# Altium footprint library TerminalBlock_MetzConnect.PcbLib: 61 footprints (part 2 of 4)
Each footprint in its own frame and in the unit in brackets; x right, y up, seen from the top. Pads: shape width x height; smd on the part's side, far side on the other; paste and mask are expansions set on the pad; w line width, h text height; cw(c..) or ccw(c..) is an arc to the next point about the centre after c.
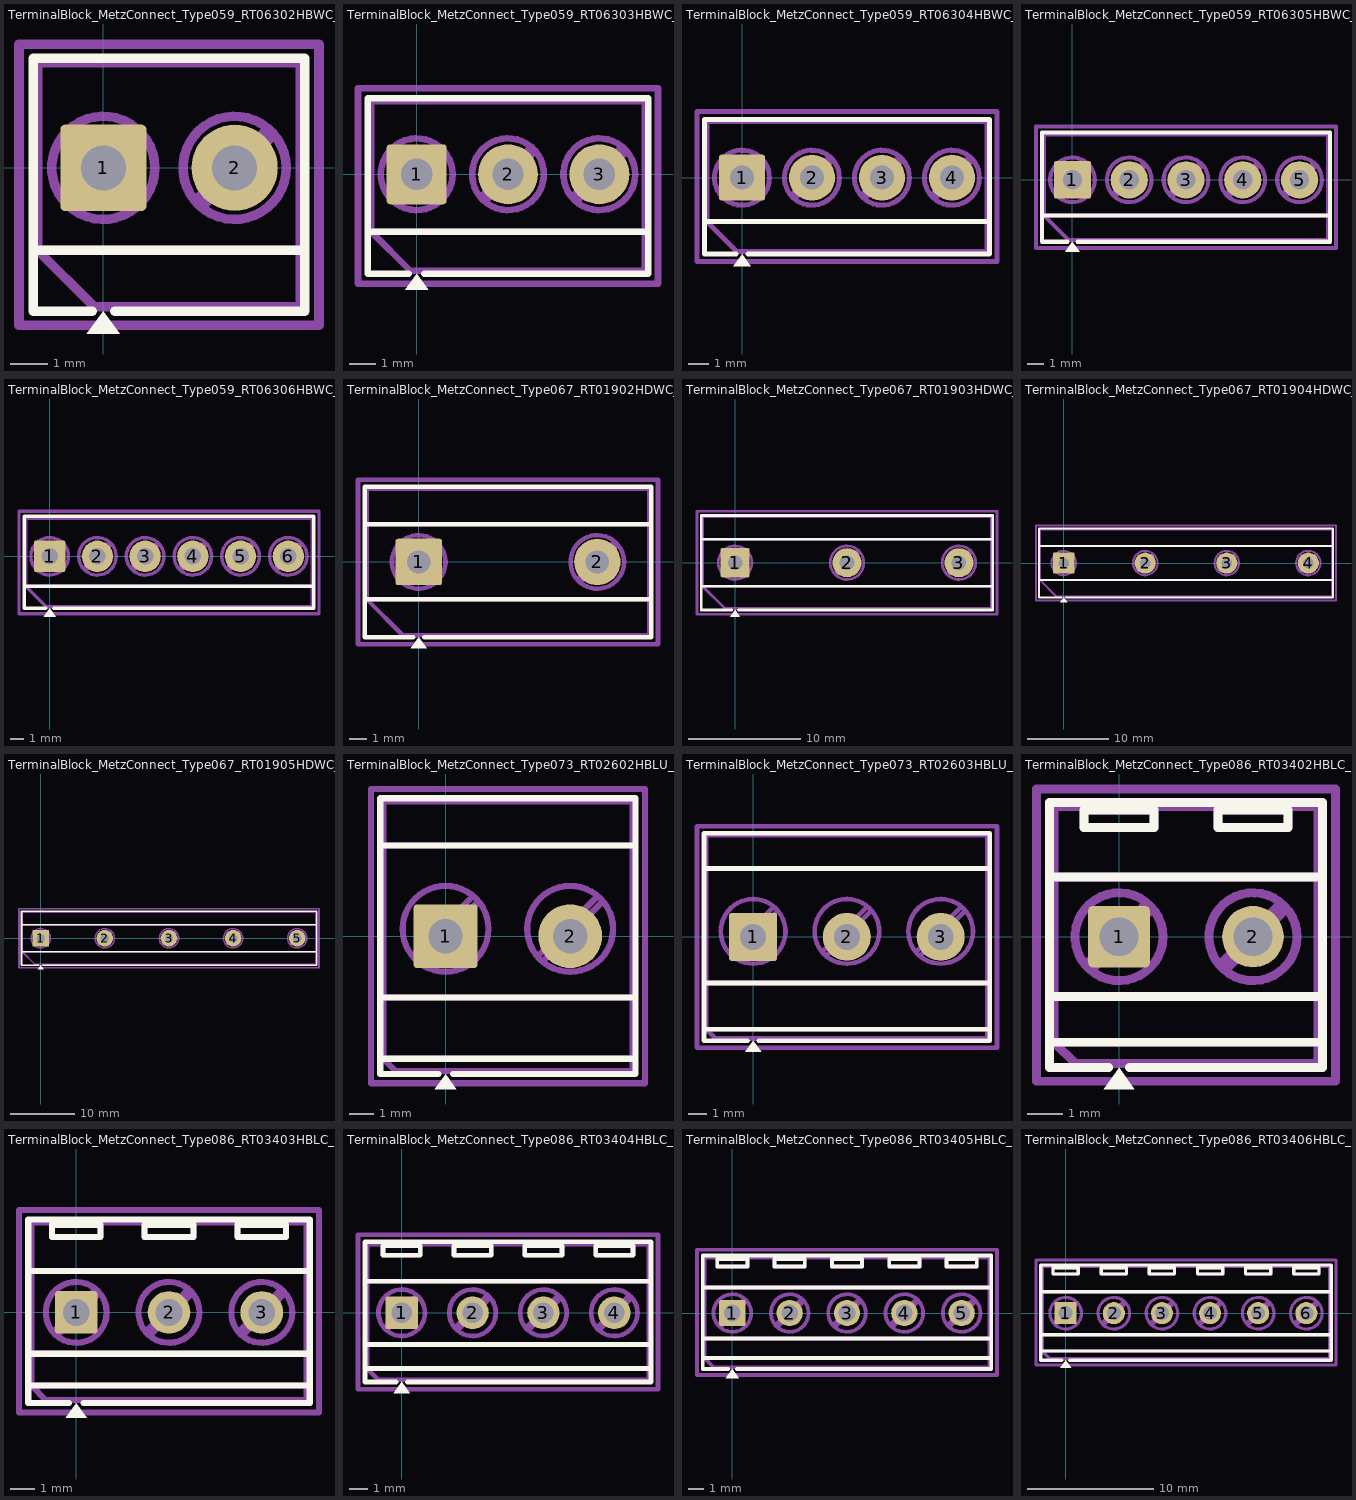
[diagram p1: the footprints below, top view; thin cyan lines are the x and y axes]

## TerminalBlock_MetzConnect_Type059_RT06302HBWC_1x02_P3.50mm_Horizontal [mm]
pads (2):
  rrect11% 2.3x2.3 hole 1.2: 1(0,0)
  round 2.3 hole 1.2: 2(3.5,0)
F.SilkS:
  region: 0.44,-4.43 -0.44,-4.43 0,-3.82
  lines w0.254: -1.87,-2.2 5.37,-2.2 ; -0.3,-3.82 -1.87,-3.82 -1.87,2.92 5.37,2.92 5.37,-3.82 0.3,-3.82
F.Fab:
  circle w0.254: c0,0 r1.375
  circle w0.254: c3.5,0 r1.375
  lines w0.254: -1.043,-0.875 0.875,1.043 ; -0.875,-1.043 1.043,0.875 ; 2.457,-0.875 4.375,1.043 ; 2.625,-1.043 4.543,0.875 ; 5.25,-2.2 -1.75,-2.2 ; -1.75,-2.2 -1.75,2.8 5.25,2.8 5.25,-3.7 -0.25,-3.7 -1.75,-2.2
  text "'.Designator'" at -2.297,-3.79 h1
F.CrtYd:
  lines w0.254: -2.25,-4.2 -2.25,3.3 5.75,3.3 5.75,-4.2 -2.25,-4.2

## TerminalBlock_MetzConnect_Type059_RT06303HBWC_1x03_P3.50mm_Horizontal [mm]
pads (3):
  rrect11% 2.3x2.3 hole 1.2: 1(0,0)
  round 2.3 hole 1.2: 2(3.5,0) 3(7,0)
F.SilkS:
  region: 0.44,-4.43 -0.44,-4.43 0,-3.82
  lines w0.254: -1.87,-2.2 8.87,-2.2 ; -0.3,-3.82 -1.87,-3.82 -1.87,2.92 8.87,2.92 8.87,-3.82 0.3,-3.82
F.Fab:
  circle w0.254: c0,0 r1.375
  circle w0.254: c3.5,0 r1.375
  circle w0.254: c7,0 r1.375
  lines w0.254: -1.043,-0.875 0.875,1.043 ; -0.875,-1.043 1.043,0.875 ; 2.457,-0.875 4.375,1.043 ; 2.625,-1.043 4.543,0.875 ; 5.957,-0.875 7.875,1.043 ; 6.125,-1.043 8.043,0.875 ; 8.75,-2.2 -1.75,-2.2 ; -1.75,-2.2 -1.75,2.8 8.75,2.8 8.75,-3.7 -0.25,-3.7 -1.75,-2.2
  text "'.Designator'" at -0.547,-3.79 h1
F.CrtYd:
  lines w0.254: -2.25,-4.2 -2.25,3.3 9.25,3.3 9.25,-4.2 -2.25,-4.2

## TerminalBlock_MetzConnect_Type059_RT06304HBWC_1x04_P3.50mm_Horizontal [mm]
pads (4):
  rrect11% 2.3x2.3 hole 1.2: 1(0,0)
  round 2.3 hole 1.2: 2(3.5,0) 3(7,0) 4(10.5,0)
F.SilkS:
  region: 0.44,-4.43 -0.44,-4.43 0,-3.82
  lines w0.254: -1.87,-2.2 12.37,-2.2 ; -0.3,-3.82 -1.87,-3.82 -1.87,2.92 12.37,2.92 12.37,-3.82 0.3,-3.82
F.Fab:
  circle w0.254: c0,0 r1.375
  circle w0.254: c3.5,0 r1.375
  circle w0.254: c7,0 r1.375
  circle w0.254: c10.5,0 r1.375
  lines w0.254: -1.043,-0.875 0.875,1.043 ; -0.875,-1.043 1.043,0.875 ; 2.457,-0.875 4.375,1.043 ; 2.625,-1.043 4.543,0.875 ; 5.957,-0.875 7.875,1.043 ; 6.125,-1.043 8.043,0.875 ; 9.457,-0.875 11.375,1.043 ; 9.625,-1.043 11.543,0.875 ; 12.25,-2.2 -1.75,-2.2 ; -1.75,-2.2 -1.75,2.8 12.25,2.8 12.25,-3.7 -0.25,-3.7 -1.75,-2.2
  text "'.Designator'" at 1.203,-3.79 h1
F.CrtYd:
  lines w0.254: -2.25,-4.2 -2.25,3.3 12.75,3.3 12.75,-4.2 -2.25,-4.2

## TerminalBlock_MetzConnect_Type059_RT06305HBWC_1x05_P3.50mm_Horizontal [mm]
pads (5):
  rrect11% 2.3x2.3 hole 1.2: 1(0,0)
  round 2.3 hole 1.2: 2(3.5,0) 3(7,0) 4(10.5,0) 5(14,0)
F.SilkS:
  region: 0.44,-4.43 -0.44,-4.43 0,-3.82
  lines w0.254: -1.87,-2.2 15.87,-2.2 ; -0.3,-3.82 -1.87,-3.82 -1.87,2.92 15.87,2.92 15.87,-3.82 0.3,-3.82
F.Fab:
  circle w0.254: c0,0 r1.375
  circle w0.254: c3.5,0 r1.375
  circle w0.254: c7,0 r1.375
  circle w0.254: c10.5,0 r1.375
  circle w0.254: c14,0 r1.375
  lines w0.254: -1.043,-0.875 0.875,1.043 ; -0.875,-1.043 1.043,0.875 ; 2.457,-0.875 4.375,1.043 ; 2.625,-1.043 4.543,0.875 ; 5.957,-0.875 7.875,1.043 ; 6.125,-1.043 8.043,0.875 ; 9.457,-0.875 11.375,1.043 ; 9.625,-1.043 11.543,0.875 ; 12.957,-0.875 14.875,1.043 ; 13.125,-1.043 15.043,0.875 ; 15.75,-2.2 -1.75,-2.2 ; -1.75,-2.2 -1.75,2.8 15.75,2.8 15.75,-3.7 -0.25,-3.7 -1.75,-2.2
  text "'.Designator'" at 2.953,-3.79 h1
F.CrtYd:
  lines w0.254: -2.25,-4.2 -2.25,3.3 16.25,3.3 16.25,-4.2 -2.25,-4.2

## TerminalBlock_MetzConnect_Type059_RT06306HBWC_1x06_P3.50mm_Horizontal [mm]
pads (6):
  rrect11% 2.3x2.3 hole 1.2: 1(0,0)
  round 2.3 hole 1.2: 2(3.5,0) 3(7,0) 4(10.5,0) 5(14,0) 6(17.5,0)
F.SilkS:
  region: 0.44,-4.43 -0.44,-4.43 0,-3.82
  lines w0.254: -1.87,-2.2 19.37,-2.2 ; -0.3,-3.82 -1.87,-3.82 -1.87,2.92 19.37,2.92 19.37,-3.82 0.3,-3.82
F.Fab:
  circle w0.254: c0,0 r1.375
  circle w0.254: c3.5,0 r1.375
  circle w0.254: c7,0 r1.375
  circle w0.254: c10.5,0 r1.375
  circle w0.254: c14,0 r1.375
  circle w0.254: c17.5,0 r1.375
  lines w0.254: -1.043,-0.875 0.875,1.043 ; -0.875,-1.043 1.043,0.875 ; 2.457,-0.875 4.375,1.043 ; 2.625,-1.043 4.543,0.875 ; 5.957,-0.875 7.875,1.043 ; 6.125,-1.043 8.043,0.875 ; 9.457,-0.875 11.375,1.043 ; 9.625,-1.043 11.543,0.875 ; 12.957,-0.875 14.875,1.043 ; 13.125,-1.043 15.043,0.875 ; 16.457,-0.875 18.375,1.043 ; 16.625,-1.043 18.543,0.875 ; 19.25,-2.2 -1.75,-2.2 ; -1.75,-2.2 -1.75,2.8 19.25,2.8 19.25,-3.7 -0.25,-3.7 -1.75,-2.2
  text "'.Designator'" at 4.703,-3.79 h1
F.CrtYd:
  lines w0.254: -2.25,-4.2 -2.25,3.3 19.75,3.3 19.75,-4.2 -2.25,-4.2

## TerminalBlock_MetzConnect_Type067_RT01902HDWC_1x02_P10.00mm_Horizontal [mm]
pads (2):
  rrect10% 2.6x2.6 hole 1.3: 1(0,0)
  round 2.6 hole 1.3: 2(10,0)
F.SilkS:
  region: 0.44,-4.83 -0.44,-4.83 0,-4.22
  lines w0.254: -3.02,-2.1 13.02,-2.1 ; -3.02,2.1 13.02,2.1 ; -0.3,-4.22 -3.02,-4.22 -3.02,4.22 13.02,4.22 13.02,-4.22 0.3,-4.22
F.Fab:
  circle w0.254: c0,0 r1.5
  circle w0.254: c10,0 r1.5
  lines w0.254: -2.9,2.1 12.9,2.1 ; -1.138,-0.955 0.955,1.138 ; -0.955,-1.138 1.138,0.955 ; 8.862,-0.955 10.955,1.138 ; 9.045,-1.138 11.138,0.955 ; 12.9,-2.1 -2.9,-2.1 ; -2.9,-2.1 -2.9,4.1 12.9,4.1 12.9,-4.1 -0.9,-4.1 -2.9,-2.1
  text "'.Designator'" at 0.953,-3.84 h1
F.CrtYd:
  lines w0.254: -3.4,-4.6 -3.4,4.6 13.4,4.6 13.4,-4.6 -3.4,-4.6

## TerminalBlock_MetzConnect_Type067_RT01903HDWC_1x03_P10.00mm_Horizontal [mm]
pads (3):
  rrect10% 2.6x2.6 hole 1.3: 1(0,0)
  round 2.6 hole 1.3: 2(10,0) 3(20,0)
F.SilkS:
  region: 0.44,-4.83 -0.44,-4.83 0,-4.22
  lines w0.254: -3.02,-2.1 23.02,-2.1 ; -3.02,2.1 23.02,2.1 ; -0.3,-4.22 -3.02,-4.22 -3.02,4.22 23.02,4.22 23.02,-4.22 0.3,-4.22
F.Fab:
  circle w0.254: c0,0 r1.5
  circle w0.254: c10,0 r1.5
  circle w0.254: c20,0 r1.5
  lines w0.254: -2.9,2.1 22.9,2.1 ; -1.138,-0.955 0.955,1.138 ; -0.955,-1.138 1.138,0.955 ; 8.862,-0.955 10.955,1.138 ; 9.045,-1.138 11.138,0.955 ; 18.862,-0.955 20.955,1.138 ; 19.045,-1.138 21.138,0.955 ; 22.9,-2.1 -2.9,-2.1 ; -2.9,-2.1 -2.9,4.1 22.9,4.1 22.9,-4.1 -0.9,-4.1 -2.9,-2.1
  text "'.Designator'" at 5.953,-3.84 h1
F.CrtYd:
  lines w0.254: -3.4,-4.6 -3.4,4.6 23.4,4.6 23.4,-4.6 -3.4,-4.6

## TerminalBlock_MetzConnect_Type067_RT01904HDWC_1x04_P10.00mm_Horizontal [mm]
pads (4):
  rrect10% 2.6x2.6 hole 1.3: 1(0,0)
  round 2.6 hole 1.3: 2(10,0) 3(20,0) 4(30,0)
F.SilkS:
  region: 0.44,-4.83 -0.44,-4.83 0,-4.22
  lines w0.254: -3.02,-2.1 33.02,-2.1 ; -3.02,2.1 33.02,2.1 ; -0.3,-4.22 -3.02,-4.22 -3.02,4.22 33.02,4.22 33.02,-4.22 0.3,-4.22
F.Fab:
  circle w0.254: c0,0 r1.5
  circle w0.254: c10,0 r1.5
  circle w0.254: c20,0 r1.5
  circle w0.254: c30,0 r1.5
  lines w0.254: -2.9,2.1 32.9,2.1 ; -1.138,-0.955 0.955,1.138 ; -0.955,-1.138 1.138,0.955 ; 8.862,-0.955 10.955,1.138 ; 9.045,-1.138 11.138,0.955 ; 18.862,-0.955 20.955,1.138 ; 19.045,-1.138 21.138,0.955 ; 28.862,-0.955 30.955,1.138 ; 29.045,-1.138 31.138,0.955 ; 32.9,-2.1 -2.9,-2.1 ; -2.9,-2.1 -2.9,4.1 32.9,4.1 32.9,-4.1 -0.9,-4.1 -2.9,-2.1
  text "'.Designator'" at 10.953,-3.84 h1
F.CrtYd:
  lines w0.254: -3.4,-4.6 -3.4,4.6 33.4,4.6 33.4,-4.6 -3.4,-4.6

## TerminalBlock_MetzConnect_Type067_RT01905HDWC_1x05_P10.00mm_Horizontal [mm]
pads (5):
  rrect10% 2.6x2.6 hole 1.3: 1(0,0)
  round 2.6 hole 1.3: 2(10,0) 3(20,0) 4(30,0) 5(40,0)
F.SilkS:
  region: 0.44,-4.83 -0.44,-4.83 0,-4.22
  lines w0.254: -3.02,-2.1 43.02,-2.1 ; -3.02,2.1 43.02,2.1 ; -0.3,-4.22 -3.02,-4.22 -3.02,4.22 43.02,4.22 43.02,-4.22 0.3,-4.22
F.Fab:
  circle w0.254: c0,0 r1.5
  circle w0.254: c10,0 r1.5
  circle w0.254: c20,0 r1.5
  circle w0.254: c30,0 r1.5
  circle w0.254: c40,0 r1.5
  lines w0.254: -2.9,2.1 42.9,2.1 ; -1.138,-0.955 0.955,1.138 ; -0.955,-1.138 1.138,0.955 ; 8.862,-0.955 10.955,1.138 ; 9.045,-1.138 11.138,0.955 ; 18.862,-0.955 20.955,1.138 ; 19.045,-1.138 21.138,0.955 ; 28.862,-0.955 30.955,1.138 ; 29.045,-1.138 31.138,0.955 ; 38.862,-0.955 40.955,1.138 ; 39.045,-1.138 41.138,0.955 ; 42.9,-2.1 -2.9,-2.1 ; -2.9,-2.1 -2.9,4.1 42.9,4.1 42.9,-4.1 -0.9,-4.1 -2.9,-2.1
  text "'.Designator'" at 15.953,-3.84 h1
F.CrtYd:
  lines w0.254: -3.4,-4.6 -3.4,4.6 43.4,4.6 43.4,-4.6 -3.4,-4.6

## TerminalBlock_MetzConnect_Type073_RT02602HBLU_1x02_P5.08mm_Horizontal [mm]
pads (2):
  rrect10% 2.6x2.6 hole 1.4: 1(0,0)
  round 2.6 hole 1.4: 2(5.08,0)
F.SilkS:
  region: 0.44,-6.23 -0.44,-6.23 0,-5.62
  lines w0.254: -2.66,-5 7.74,-5 ; -2.66,-2.5 7.74,-2.5 ; -2.66,3.7 7.74,3.7 ; -0.3,-5.62 -2.66,-5.62 -2.66,5.62 7.74,5.62 7.74,-5.62 0.3,-5.62
F.Fab:
  circle w0.254: c0,0.3 r1.75
  circle w0.254: c5.08,0.3 r1.75
  lines w0.254: -2.54,-2.5 7.62,-2.5 ; -2.54,3.7 7.62,3.7 ; -1.327,-0.814 1.114,1.627 ; -1.114,-1.027 1.327,1.414 ; 3.753,-0.814 6.194,1.627 ; 3.966,-1.027 6.407,1.414 ; 7.62,-5 -2.54,-5 ; -2.54,-5 -2.54,5.5 7.62,5.5 7.62,-5.5 -2.04,-5.5 -2.54,-5
  text "'.Designator'" at -1.507,-4.34 h1
F.CrtYd:
  lines w0.254: -3.04,-6 -3.04,6 8.13,6 8.13,-6 -3.04,-6

## TerminalBlock_MetzConnect_Type073_RT02603HBLU_1x03_P5.08mm_Horizontal [mm]
pads (3):
  rrect10% 2.6x2.6 hole 1.4: 1(0,0)
  round 2.6 hole 1.4: 2(5.08,0) 3(10.16,0)
F.SilkS:
  region: 0.44,-6.23 -0.44,-6.23 0,-5.62
  lines w0.254: -2.66,-5 12.82,-5 ; -2.66,-2.5 12.82,-2.5 ; -2.66,3.7 12.82,3.7 ; -0.3,-5.62 -2.66,-5.62 -2.66,5.62 12.82,5.62 12.82,-5.62 0.3,-5.62
F.Fab:
  circle w0.254: c0,0.3 r1.75
  circle w0.254: c5.08,0.3 r1.75
  circle w0.254: c10.16,0.3 r1.75
  lines w0.254: -2.54,-2.5 12.7,-2.5 ; -2.54,3.7 12.7,3.7 ; -1.327,-0.814 1.114,1.627 ; -1.114,-1.027 1.327,1.414 ; 3.753,-0.814 6.194,1.627 ; 3.966,-1.027 6.407,1.414 ; 8.833,-0.814 11.274,1.627 ; 9.046,-1.027 11.487,1.414 ; 12.7,-5 -2.54,-5 ; -2.54,-5 -2.54,5.5 12.7,5.5 12.7,-5.5 -2.04,-5.5 -2.54,-5
  text "'.Designator'" at 1.033,-4.34 h1
F.CrtYd:
  lines w0.254: -3.04,-6 -3.04,6 13.21,6 13.21,-6 -3.04,-6

## TerminalBlock_MetzConnect_Type086_RT03402HBLC_1x02_P3.81mm_Horizontal [mm]
pads (2):
  rrect14% 1.75x1.75 hole 1.1: 1(0,0)
  round 1.75 hole 1.1: 2(3.81,0)
F.SilkS:
  region: 0.44,-4.33 -0.44,-4.33 0,-3.72
  lines w0.254: -1.97,-3 5.78,-3 ; -1.97,-1.7 5.78,-1.7 ; -1.97,1.7 5.78,1.7 ; -0.3,-3.72 -1.97,-3.72 -1.97,3.82 5.78,3.82 5.78,-3.72 0.3,-3.72 ; -1,3.1 -1,3.6 1,3.6 1,3.1 -1,3.1 ; 2.81,3.1 2.81,3.6 4.81,3.6 4.81,3.1 2.81,3.1
F.Fab:
  circle w0.254: c0,0 r1.25
  circle w0.254: c3.81,0 r1.25
  lines w0.254: -1.85,-1.7 5.66,-1.7 ; -1.85,1.7 5.66,1.7 ; -0.948,-0.795 0.795,0.948 ; -0.795,-0.948 0.948,0.795 ; 2.862,-0.795 4.605,0.948 ; 3.015,-0.948 4.758,0.795 ; 5.66,-3 -1.85,-3 ; -1.85,-3 -1.85,3.7 5.66,3.7 5.66,-3.6 -1.25,-3.6 -1.85,-3 ; -1,3.1 -1,3.6 1,3.6 1,3.1 -1,3.1 ; 2.81,3.1 2.81,3.6 4.81,3.6 4.81,3.1 2.81,3.1
  text "'.Designator'" at -2.142,-3.24 h1
F.CrtYd:
  lines w0.254: -2.35,-4.11 -2.35,4.2 6.16,4.2 6.16,-4.11 -2.35,-4.11

## TerminalBlock_MetzConnect_Type086_RT03403HBLC_1x03_P3.81mm_Horizontal [mm]
pads (3):
  rrect14% 1.75x1.75 hole 1.1: 1(0,0)
  round 1.75 hole 1.1: 2(3.81,0) 3(7.62,0)
F.SilkS:
  region: 0.44,-4.33 -0.44,-4.33 0,-3.72
  lines w0.254: -1.97,-3 9.59,-3 ; -1.97,-1.7 9.59,-1.7 ; -1.97,1.7 9.59,1.7 ; -0.3,-3.72 -1.97,-3.72 -1.97,3.82 9.59,3.82 9.59,-3.72 0.3,-3.72 ; -1,3.1 -1,3.6 1,3.6 1,3.1 -1,3.1 ; 2.81,3.1 2.81,3.6 4.81,3.6 4.81,3.1 2.81,3.1 ; 6.62,3.1 6.62,3.6 8.62,3.6 8.62,3.1 6.62,3.1
F.Fab:
  circle w0.254: c0,0 r1.25
  circle w0.254: c3.81,0 r1.25
  circle w0.254: c7.62,0 r1.25
  lines w0.254: -1.85,-1.7 9.47,-1.7 ; -1.85,1.7 9.47,1.7 ; -0.948,-0.795 0.795,0.948 ; -0.795,-0.948 0.948,0.795 ; 2.862,-0.795 4.605,0.948 ; 3.015,-0.948 4.758,0.795 ; 6.672,-0.795 8.415,0.948 ; 6.825,-0.948 8.568,0.795 ; 9.47,-3 -1.85,-3 ; -1.85,-3 -1.85,3.7 9.47,3.7 9.47,-3.6 -1.25,-3.6 -1.85,-3 ; -1,3.1 -1,3.6 1,3.6 1,3.1 -1,3.1 ; 2.81,3.1 2.81,3.6 4.81,3.6 4.81,3.1 2.81,3.1 ; 6.62,3.1 6.62,3.6 8.62,3.6 8.62,3.1 6.62,3.1
  text "'.Designator'" at -0.237,-3.24 h1
F.CrtYd:
  lines w0.254: -2.35,-4.11 -2.35,4.2 9.97,4.2 9.97,-4.11 -2.35,-4.11

## TerminalBlock_MetzConnect_Type086_RT03404HBLC_1x04_P3.81mm_Horizontal [mm]
pads (4):
  rrect14% 1.75x1.75 hole 1.1: 1(0,0)
  round 1.75 hole 1.1: 2(3.81,0) 3(7.62,0) 4(11.43,0)
F.SilkS:
  region: 0.44,-4.33 -0.44,-4.33 0,-3.72
  lines w0.254: -1.97,-3 13.4,-3 ; -1.97,-1.7 13.4,-1.7 ; -1.97,1.7 13.4,1.7 ; -0.3,-3.72 -1.97,-3.72 -1.97,3.82 13.4,3.82 13.4,-3.72 0.3,-3.72 ; -1,3.1 -1,3.6 1,3.6 1,3.1 -1,3.1 ; 2.81,3.1 2.81,3.6 4.81,3.6 4.81,3.1 2.81,3.1 ; 6.62,3.1 6.62,3.6 8.62,3.6 8.62,3.1 6.62,3.1 ; 10.43,3.1 10.43,3.6 12.43,3.6 12.43,3.1 10.43,3.1
F.Fab:
  circle w0.254: c0,0 r1.25
  circle w0.254: c3.81,0 r1.25
  circle w0.254: c7.62,0 r1.25
  circle w0.254: c11.43,0 r1.25
  lines w0.254: -1.85,-1.7 13.28,-1.7 ; -1.85,1.7 13.28,1.7 ; -0.948,-0.795 0.795,0.948 ; -0.795,-0.948 0.948,0.795 ; 2.862,-0.795 4.605,0.948 ; 3.015,-0.948 4.758,0.795 ; 6.672,-0.795 8.415,0.948 ; 6.825,-0.948 8.568,0.795 ; 10.482,-0.795 12.225,0.948 ; 10.635,-0.948 12.378,0.795 ; 13.28,-3 -1.85,-3 ; -1.85,-3 -1.85,3.7 13.28,3.7 13.28,-3.6 -1.25,-3.6 -1.85,-3 ; -1,3.1 -1,3.6 1,3.6 1,3.1 -1,3.1 ; 2.81,3.1 2.81,3.6 4.81,3.6 4.81,3.1 2.81,3.1 ; 6.62,3.1 6.62,3.6 8.62,3.6 8.62,3.1 6.62,3.1 ; 10.43,3.1 10.43,3.6 12.43,3.6 12.43,3.1 10.43,3.1
  text "'.Designator'" at 1.668,-3.24 h1
F.CrtYd:
  lines w0.254: -2.35,-4.11 -2.35,4.2 13.78,4.2 13.78,-4.11 -2.35,-4.11

## TerminalBlock_MetzConnect_Type086_RT03405HBLC_1x05_P3.81mm_Horizontal [mm]
pads (5):
  rrect14% 1.75x1.75 hole 1.1: 1(0,0)
  round 1.75 hole 1.1: 2(3.81,0) 3(7.62,0) 4(11.43,0) 5(15.24,0)
F.SilkS:
  region: 0.44,-4.33 -0.44,-4.33 0,-3.72
  lines w0.254: -1.97,-3 17.21,-3 ; -1.97,-1.7 17.21,-1.7 ; -1.97,1.7 17.21,1.7 ; -0.3,-3.72 -1.97,-3.72 -1.97,3.82 17.21,3.82 17.21,-3.72 0.3,-3.72 ; -1,3.1 -1,3.6 1,3.6 1,3.1 -1,3.1 ; 2.81,3.1 2.81,3.6 4.81,3.6 4.81,3.1 2.81,3.1 ; 6.62,3.1 6.62,3.6 8.62,3.6 8.62,3.1 6.62,3.1 ; 10.43,3.1 10.43,3.6 12.43,3.6 12.43,3.1 10.43,3.1 ; 14.24,3.1 14.24,3.6 16.24,3.6 16.24,3.1 14.24,3.1
F.Fab:
  circle w0.254: c0,0 r1.25
  circle w0.254: c3.81,0 r1.25
  circle w0.254: c7.62,0 r1.25
  circle w0.254: c11.43,0 r1.25
  circle w0.254: c15.24,0 r1.25
  lines w0.254: -1.85,-1.7 17.09,-1.7 ; -1.85,1.7 17.09,1.7 ; -0.948,-0.795 0.795,0.948 ; -0.795,-0.948 0.948,0.795 ; 2.862,-0.795 4.605,0.948 ; 3.015,-0.948 4.758,0.795 ; 6.672,-0.795 8.415,0.948 ; 6.825,-0.948 8.568,0.795 ; 10.482,-0.795 12.225,0.948 ; 10.635,-0.948 12.378,0.795 ; 14.292,-0.795 16.035,0.948 ; 14.445,-0.948 16.188,0.795 ; 17.09,-3 -1.85,-3 ; -1.85,-3 -1.85,3.7 17.09,3.7 17.09,-3.6 -1.25,-3.6 -1.85,-3 ; -1,3.1 -1,3.6 1,3.6 1,3.1 -1,3.1 ; 2.81,3.1 2.81,3.6 4.81,3.6 4.81,3.1 2.81,3.1 ; 6.62,3.1 6.62,3.6 8.62,3.6 8.62,3.1 6.62,3.1 ; 10.43,3.1 10.43,3.6 12.43,3.6 12.43,3.1 10.43,3.1 ; 14.24,3.1 14.24,3.6 16.24,3.6 16.24,3.1 14.24,3.1
  text "'.Designator'" at 3.573,-3.24 h1
F.CrtYd:
  lines w0.254: -2.35,-4.11 -2.35,4.2 17.59,4.2 17.59,-4.11 -2.35,-4.11

## TerminalBlock_MetzConnect_Type086_RT03406HBLC_1x06_P3.81mm_Horizontal [mm]
pads (6):
  rrect14% 1.75x1.75 hole 1.1: 1(0,0)
  round 1.75 hole 1.1: 2(3.81,0) 3(7.62,0) 4(11.43,0) 5(15.24,0) 6(19.05,0)
F.SilkS:
  region: 0.44,-4.33 -0.44,-4.33 0,-3.72
  lines w0.254: -1.97,-3 21.02,-3 ; -1.97,-1.7 21.02,-1.7 ; -1.97,1.7 21.02,1.7 ; -0.3,-3.72 -1.97,-3.72 -1.97,3.82 21.02,3.82 21.02,-3.72 0.3,-3.72 ; -1,3.1 -1,3.6 1,3.6 1,3.1 -1,3.1 ; 2.81,3.1 2.81,3.6 4.81,3.6 4.81,3.1 2.81,3.1 ; 6.62,3.1 6.62,3.6 8.62,3.6 8.62,3.1 6.62,3.1 ; 10.43,3.1 10.43,3.6 12.43,3.6 12.43,3.1 10.43,3.1 ; 14.24,3.1 14.24,3.6 16.24,3.6 16.24,3.1 14.24,3.1 ; 18.05,3.1 18.05,3.6 20.05,3.6 20.05,3.1 18.05,3.1
F.Fab:
  circle w0.254: c0,0 r1.25
  circle w0.254: c3.81,0 r1.25
  circle w0.254: c7.62,0 r1.25
  circle w0.254: c11.43,0 r1.25
  circle w0.254: c15.24,0 r1.25
  circle w0.254: c19.05,0 r1.25
  lines w0.254: -1.85,-1.7 20.9,-1.7 ; -1.85,1.7 20.9,1.7 ; -0.948,-0.795 0.795,0.948 ; -0.795,-0.948 0.948,0.795 ; 2.862,-0.795 4.605,0.948 ; 3.015,-0.948 4.758,0.795 ; 6.672,-0.795 8.415,0.948 ; 6.825,-0.948 8.568,0.795 ; 10.482,-0.795 12.225,0.948 ; 10.635,-0.948 12.378,0.795 ; 14.292,-0.795 16.035,0.948 ; 14.445,-0.948 16.188,0.795 ; 18.102,-0.795 19.845,0.948 ; 18.255,-0.948 19.998,0.795 ; 20.9,-3 -1.85,-3 ; -1.85,-3 -1.85,3.7 20.9,3.7 20.9,-3.6 -1.25,-3.6 -1.85,-3 ; -1,3.1 -1,3.6 1,3.6 1,3.1 -1,3.1 ; 2.81,3.1 2.81,3.6 4.81,3.6 4.81,3.1 2.81,3.1 ; 6.62,3.1 6.62,3.6 8.62,3.6 8.62,3.1 6.62,3.1 ; 10.43,3.1 10.43,3.6 12.43,3.6 12.43,3.1 10.43,3.1 ; 14.24,3.1 14.24,3.6 16.24,3.6 16.24,3.1 14.24,3.1 ; 18.05,3.1 18.05,3.6 20.05,3.6 20.05,3.1 18.05,3.1
  text "'.Designator'" at 5.478,-3.24 h1
F.CrtYd:
  lines w0.254: -2.35,-4.11 -2.35,4.2 21.4,4.2 21.4,-4.11 -2.35,-4.11